# Altium footprint library РМПЕ Р-3.PcbLib: 1 footprints
Each footprint in its own frame and in the unit in brackets; x right, y up, seen from the top. Pads: shape width x height; smd on the part's side, far side on the other; paste and mask are expansions set on the pad; w line width, h text height; cw(c..) or ccw(c..) is an arc to the next point about the centre after c.
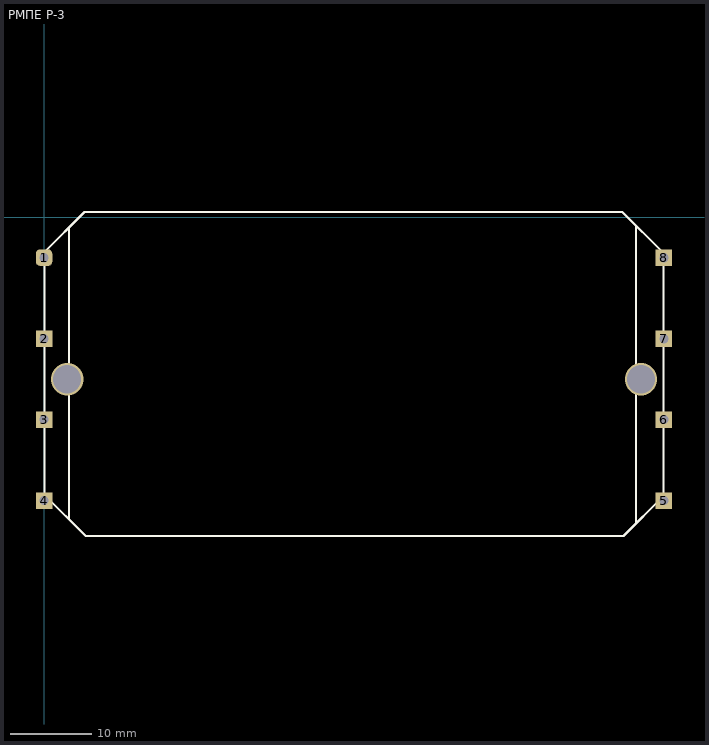
[diagram p0: the footprint, top view; thin cyan lines are the x and y axes]

## РМПЕ Р-3 [mil]
pads (8):
  rrect50% 80x80 hole 45: 1(-1.85,-196.85)
  rect 80x80 hole 45: 2(-1.85,-590.55) 3(-1.85,-984.25) 4(-1.85,-1377.95) 5(3011.81,-1377.95) 6(3011.81,-984.25) 7(3011.81,-590.55) 8(3011.81,-196.85)
via 110,-787.4 diameter 157.48 hole 137.8
via 2900,-787.4 diameter 157.48 hole 137.8
Top Overlay:
  lines w10: 120,-1470 120,-50 ; 2875,-1485 2875,-40 ; 0,-1350 200,-1550 2815,-1550 3010,-1355 3010,-175 2810,25 195,25 0,-170 0,-1350
3D body: height 551.18, standoff 0, extent 120,-1550 2875,25
3D body: height 78.74, standoff 0, extent 0,-1470 120,-50
3D body: height 78.74, standoff 0, extent 2875,-1490 3010,-40